# Altium footprint library PCB库2.PcbLib: 108 footprints (part 1 of 7)
Each footprint in its own frame and in the unit in brackets; x right, y up, seen from the top. Pads: shape width x height; smd on the part's side, far side on the other; paste and mask are expansions set on the pad; w line width, h text height; cw(c..) or ccw(c..) is an arc to the next point about the centre after c.
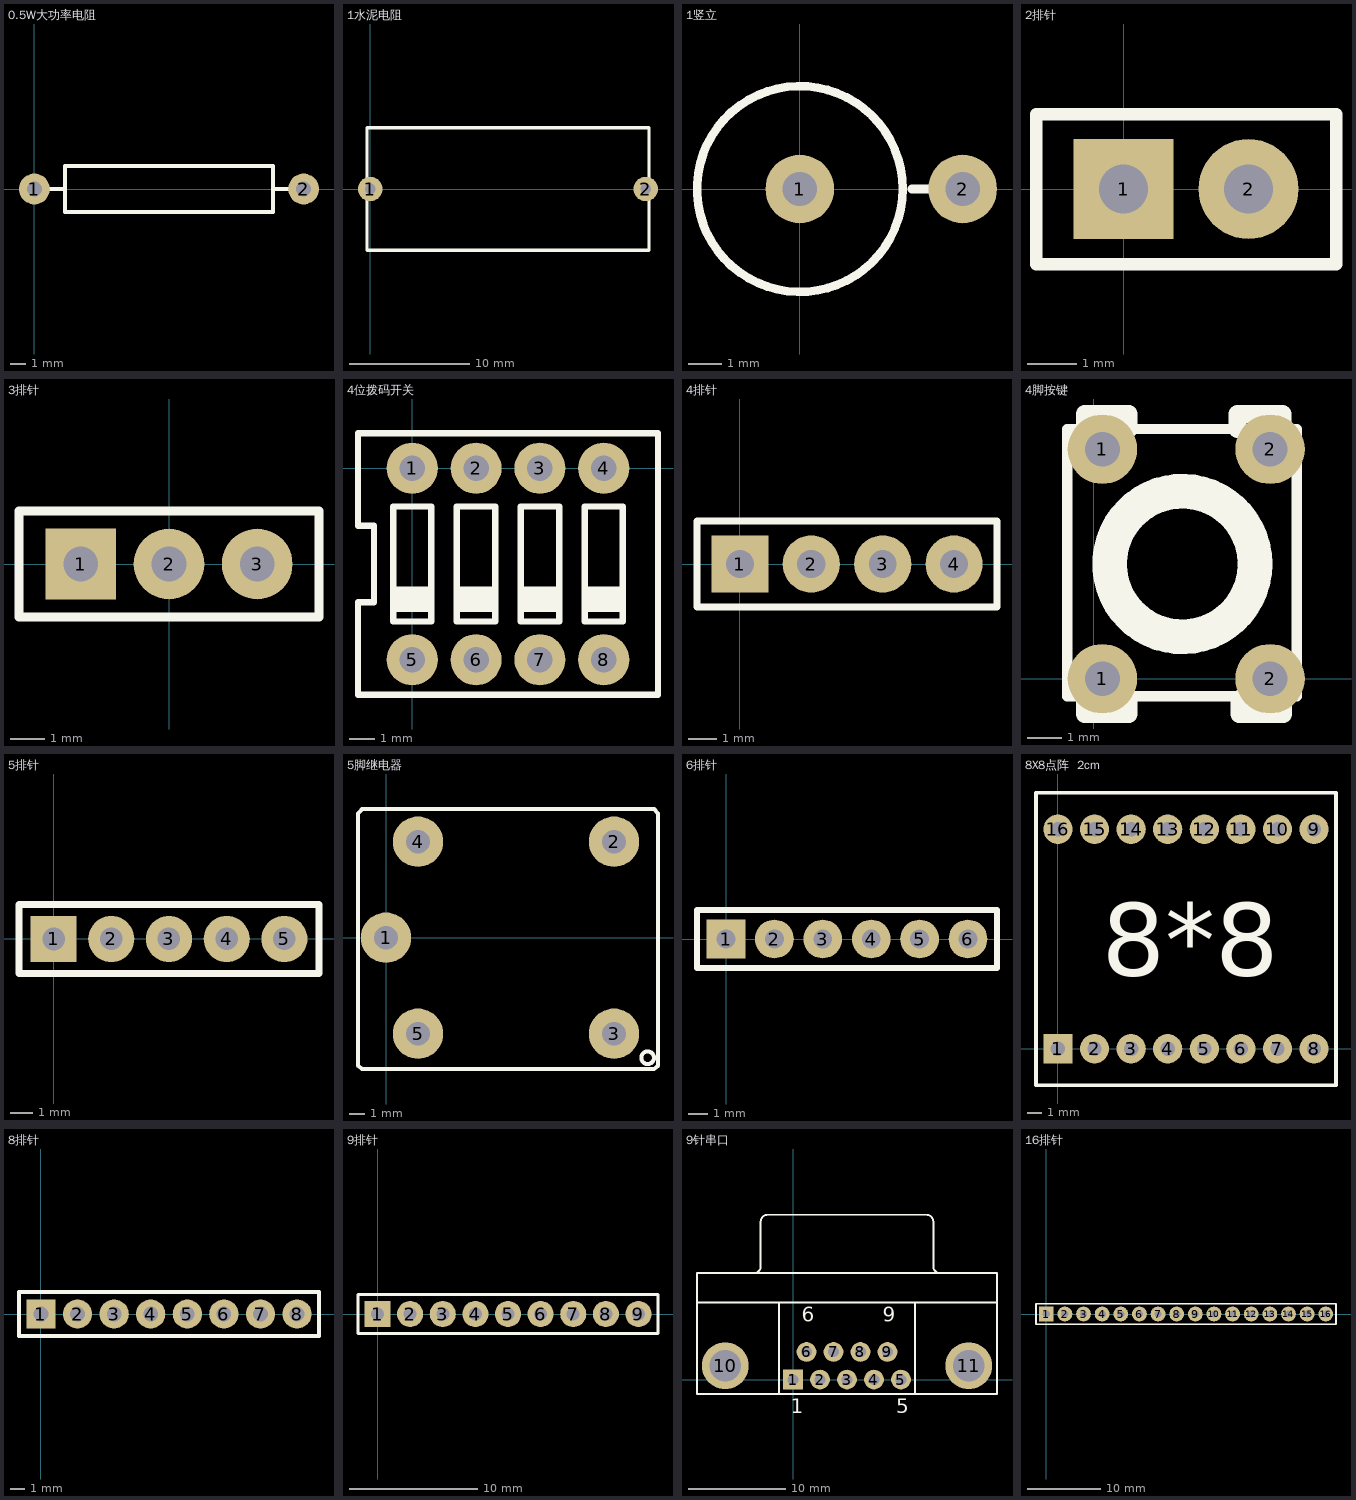
[diagram p0: the footprints below, top view; thin cyan lines are the x and y axes]

## 0.5W大功率电阻 [mil]
pads (2):
  round 80 hole 39.37: 1(0,0) 2(700,0)
Top Overlay:
  lines w10: 0,0 80,0 ; 620,0 700,0 ; 80,0 80,-60 620,-60 620,60 80,60 80,0

## 1水泥电阻 [mil]
pads (2):
  round 80 hole 35: 1(0,0) 2(900,0)
Top Overlay:
  lines w10: -10,-200 -10,50 -10,200 910,200 910,-200 -10,-200

## 1竖立 [mil]
pads (2):
  round 80 hole 40: 1(0,0) 2(190,0)
Top Overlay:
  circle w10: c0,0 r120
  lines w10: 130.38,0 190,0

## 2排针 [mil]
pads (2):
  rect 80x80 hole 39.37: 1(0,0)
  round 80 hole 39.37: 2(100,0)
Top Overlay:
  lines w10: -70,-60 170,-60 170,60 -70,60 -70,-60

## 3排针 [mil]
pads (3):
  rect 80x80 hole 39.37: 1(-100,0)
  round 80 hole 39.37: 2(0,0) 3(100,0)
Top Overlay:
  lines w10: -170,-60 170,-60 170,60 -170,60 -170,-60

## 4位拨码开关 [mil]
pads (8):
  round 80 hole 40: 1(0,0) 2(100,0) 3(200,0) 4(300,0) 5(0,-300) 6(100,-300) 7(200,-300) 8(300,-300)
Top Overlay:
  rectangle: 270,-220 330,-190
  rectangle: 170,-220 230,-190
  rectangle: 70,-220 130,-190
  rectangle: -30,-220 30,-190
  lines w10: -30,-220 30,-220 ; -30,-190 30,-190 ; 70,-220 130,-220 ; 70,-190 130,-190 ; 170,-220 230,-220 ; 170,-190 230,-190 ; 270,-220 330,-220 ; 270,-190 330,-190 ; -85,-355 -85,-210 -60,-210 -60,-90 -85,-90 -85,55 385,55 385,-355 -85,-355 ; -30,-240 -30,-60 30,-60 30,-240 -30,-240 ; 70,-240 130,-240 130,-60 70,-60 70,-240 ; 170,-240 230,-240 230,-60 170,-60 170,-240 ; 270,-240 330,-240 330,-60 270,-60 270,-240

## 4排针 [mil]
pads (4):
  rect 80x80 hole 39.37: 1(0,0)
  round 80 hole 39.37: 2(100,0)
  round 80 hole 39: 3(200,0) 4(300,0)
Top Overlay:
  lines w10: -60,-60 -60,60 360,60 360,-60 -60,-60

## 4脚按键 [mm]
pads (4):
  round 2 hole 1: 1(0.254,0) 1(0.254,6.604) 2(5.08,0) 2(5.08,6.604)
Top Overlay:
  circle w1: c2.554,3.302 r2.094
  lines w0.3: -0.762,-0.508 -0.762,7.188 5.842,7.188 5.842,-0.508 -0.762,-0.508
  lines w0.508: -0.254,-0.584 -0.254,-1.016 1.016,-1.016 1.016,-0.584 ; -0.254,7.188 -0.254,7.62 1.016,7.62 1.016,7.188 ; 4.14,7.188 4.14,7.62 5.436,7.62 5.436,7.188 ; 4.191,-0.584 4.191,-1.016 5.461,-1.016 5.461,-0.584

## 5排针 [mil]
pads (5):
  rect 80x80 hole 39.37: 1(0,0)
  round 80 hole 39: 2(100,0) 3(200,0) 4(300,0) 5(400,0)
Top Overlay:
  lines w11.81: -60,-60 -60,60 460,60 460,-60 -60,-60

## 5脚继电器 [mm]
pads (5):
  round 3.2 hole 1.5: 1(0,0) 2(14.478,6.096) 3(14.478,-6.096) 4(2.032,6.096) 5(2.032,-6.096)
Top Overlay:
  circle w0.254: c16.616,-7.62 r0.402
  lines w0.254: -1.778,-8.128 -1.778,7.874 -1.51,8.174 17.032,8.174 17.272,7.874 17.272,-8.128 17.032,-8.336 -1.51,-8.336 -1.778,-8.128

## 6排针 [mil]
pads (6):
  rect 80x80 hole 39.37: 1(0,0)
  round 80 hole 39: 2(100,0) 3(200,0) 4(300,0) 5(400,0) 6(500,0)
Top Overlay:
  lines w11.81: -60,-60 560,-60 560,60 -60,60 -60,-60

## 8X8点阵  2cm [mil]
pads (16):
  rect 80x80 hole 39.37: 1(0,0)
  round 80 hole 39: 2(100,0) 3(200,0) 4(300,0) 5(400,0) 6(500,0) 7(600,0) 8(700,0) 9(700,600) 10(600,600) 11(500,600) 12(400,600) 13(300,600) 14(200,600) 15(100,600) 16(0,600)
Top Overlay:
  lines w10: -60,-100 -60,700 760,700 760,-100 -60,-100
  text "8*8" at 120,200 h200

## 8排针 [mil]
pads (8):
  rect 80x80 hole 40: 1(0,0)
  round 80 hole 40: 2(100,0) 3(200,0) 4(300,0) 5(400,0) 6(500,0) 7(600,0) 8(700,0)
Top Overlay:
  lines w10: -60,-60 -60,60 750,60 760,60 760,-50 760,-60 640,-60 -60,-60

## 9排针 [mil]
pads (9):
  rect 80x80 hole 40: 1(0,0)
  round 80 hole 40: 2(100,0) 3(200,0) 4(300,0) 5(400,0) 6(500,0) 7(600,0) 8(700,0) 9(800,0)
Top Overlay:
  lines w10: -60,-60 860,-60 860,60 -60,60 -60,-60

## 9针串口 [mm]
pads (11):
  rect 2.032x2.032 hole 1.09: 1(0,0)
  round 2.032 hole 1.09: 2(2.77,0) 3(5.54,0) 4(8.31,0) 5(11.08,0) 6(1.385,2.84) 7(4.155,2.84) 8(6.925,2.84) 9(9.695,2.84)
  round 4.8 hole 3.26: 10(-6.955,1.42) 11(18.035,1.42)
Top Overlay:
  lines w0.2: -9.86,7.92 20.94,7.92 ; -4.02,10.925 ccw(c-4.02,11.62) -3.325,11.62 -3.325,16.22 ; -3.32,16.225 cw(c-2.625,16.225) -2.625,16.92 13.705,16.92 cw(c13.705,16.225) 14.4,16.225 ; -1.46,-1.48 -1.46,7.92 ; 12.54,-1.48 12.54,7.92 ; 14.405,16.22 14.405,11.62 ccw(c15.1,11.62) 15.1,10.925 ; -9.86,-1.48 20.94,-1.48 20.94,10.92 -9.86,10.92 -9.86,-1.48
  text "6" at 0.885,5.945 h1.5
  text "9" at 9.195,5.945 h1.5
  text "5" at 10.58,-3.455 h1.5
  text "1" at -0.25,-3.455 h1.5

## 16排针 [mil]
pads (16):
  rect 80x80 hole 39: 1(0,0)
  round 80 hole 39: 2(100,0) 3(200,0) 4(300,0) 5(400,0) 6(500,0) 7(600,0) 8(700,0) 9(800,0) 10(900,0) 11(1000,0) 12(1100,0) 13(1200,0) 14(1300,0) 15(1400,0) 16(1500,0)
Top Overlay:
  lines w10: -55,-55 -55,55 1555,55 1555,-55 -55,-55